# Altium footprint library Res_Vishay_CRCW060322R0FKEAHP_eec_0.PcbLib: 1 footprints
Each footprint in its own frame and in the unit in brackets; x right, y up, seen from the top. Pads: shape width x height; smd on the part's side, far side on the other; paste and mask are expansions set on the pad; w line width, h text height; cw(c..) or ccw(c..) is an arc to the next point about the centre after c.
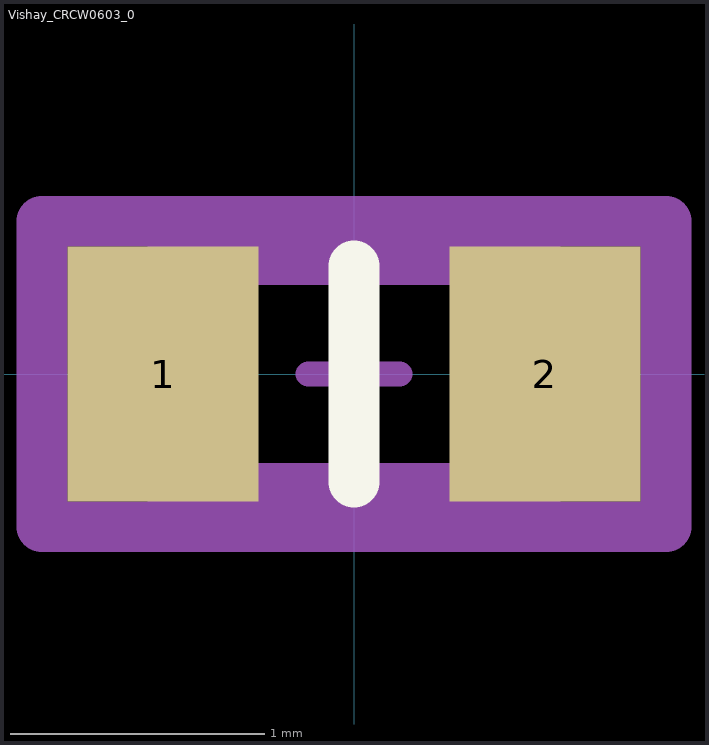
[diagram p0: the footprint, top view; thin cyan lines are the x and y axes]

## Vishay_CRCW0603_0 [mm]
pads (2):
  rect 0.75x1 smd paste+0 mask+0: 1(-0.75,0) 2(0.75,0)
Top Overlay:
  lines w0.2: 0,-0.425 0,0.425
Mechanical 10:
  lines w0.2: -1.225,-0.6 1.225,-0.6 1.225,0.6 -1.225,0.6 -1.225,-0.6
  text ".Designator" at 0,0 h1
Mechanical 12:
  lines w0.15: -0.8,-0.425 0.8,-0.425 0.8,0.425 -0.8,0.425 -0.8,-0.425
Mechanical 15:
  lines w0.1: -0.18,0 0.18,0 ; 0,-0.18 0,0.18
  lines w0.2: -1.225,-0.6 1.225,-0.6 1.225,0.6 -1.225,0.6 -1.225,-0.6
3D body "3dmodel.step": height 0.25, standoff 0, extent -1.225,-0.6 1.225,0.6